# Altium schematic symbol library 2-1445098-2.SchLib: 1 symbol
Pins are listed as number, name and electrical type; pins without a type are passive.

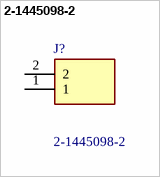
[diagram p0: symbol 2-1445098-2]

## 2-1445098-2
designator J?
Configuration Features: Number of Rows 1; Manufacturer_Name: TE Connectivity; Geometry.Height: 5.67mm; Mouser Part Number: 571-2-1445098-2; Mouser Price/Stock: https://www.mouser.co.uk/ProductDetail/TE-Connectivity-AMP/2-1445098-2?qs=Eu63EZxBwKKSsdV7%2Fa6T1Q%3D%3D; Manufacturer_Part_Number: 2-1445098-2; Datasheet Link: https://www.te.com/commerce/DocumentDelivery/DDEController?Action=srchrtrv&DocNm=micro-mate-n-lok-connector-qrg&DocType=Data%20Sheet&DocLang=English&PartCntxt=2-1445098-2&DocFormat=pdf
footprint 214450982
pins: 1, 2